# Altium integrated library opa167.IntLib: 1 symbol
Pins are listed as number, name and electrical type; pins without a type are passive.

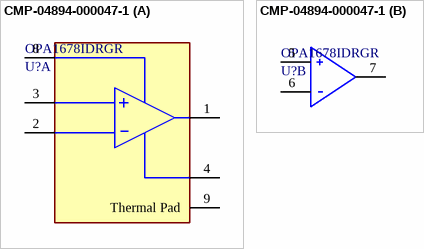
[diagram p0: symbol CMP-04894-000047-1]

## CMP-04894-000047-1
designator U?, comment OPA1678IDRGR
IC AUDIO 2 CIRCUIT 8SON; Input Bias Current: 10pA; Input Offset Voltage (Vos): 500uV; Number of Circuits: 2; Operating Supply Current: 2mA; Slew Rate: 9V/µs; Gain Bandwidth Product: 16MHz; Min Operating Temperature: -40°C; Max Operating Temperature: 85°C; RoHS Compliant: Yes; Mount: Surface Mount; Packaging: Cut Tape; Number of Channels: 2
footprint FP-DRG0008A-IPC_C
footprint FP-DRG0008A-IPC_B
footprint FP-DRG0008A-MFG
footprint FP-DRG0008A-IPC_A
part A pins: 1 OUT A, 2 -IN A (hiz), 3 +IN A (hiz), 4 V- (power), 8 V+ (power), 9 Thermal Pad (power)
part B pins: 5 +IN B (hiz), 6 -IN B (hiz), 7 OUT B